# EAGLE library part BOOSTERPACK (library trainlib)
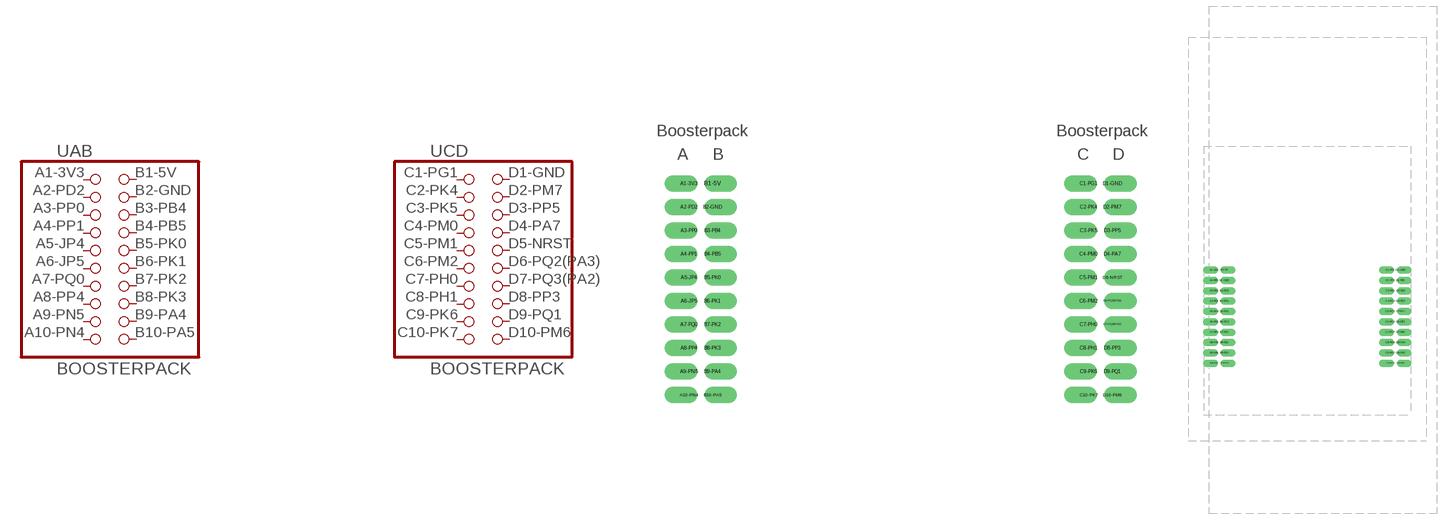
[diagram p5: symbol with the pads of BOOSTERPACK-CONN2; footprints BOOSTERPACK-CONN2, BOOSTERPACK-TIVA]

Designator prefix -; gates AB=PINH2X10 CD=PINH2X10

## BOOSTERPACKCONNECTED-2  [BOOSTERPACK-CONN2]
A1-3V3  AB:1  pas
A2-PD2  AB:3  pas
A3-PP0  AB:5  pas
A4-PP1  AB:7  pas
A5-JP4  AB:9  pas
A6-JP5  AB:11  pas
A7-PQ0  AB:13  pas
A8-PP4  AB:15  pas
A9-PN5  AB:17  pas
A10-PN4  AB:19  pas
B1-5V  AB:2  pas
B2-GND  AB:4  pas
B3-PB4  AB:6  pas
B4-PB5  AB:8  pas
B5-PK0  AB:10  pas
B6-PK1  AB:12  pas
B7-PK2  AB:14  pas
B8-PK3  AB:16  pas
B9-PA4  AB:18  pas
B10-PA5  AB:20  pas
C1-PG1  CD:1  pas
C2-PK4  CD:3  pas
C3-PK5  CD:5  pas
C4-PM0  CD:7  pas
C5-PM1  CD:9  pas
C6-PM2  CD:11  pas
C7-PH0  CD:13  pas
C8-PH1  CD:15  pas
C9-PK6  CD:17  pas
C10-PK7  CD:19  pas
D1-GND  CD:2  pas
D2-PM7  CD:4  pas
D3-PP5  CD:6  pas
D4-PA7  CD:8  pas
D5-NRST  CD:10  pas
D6-PQ2(PA3)  CD:12  pas
D7-PQ3(PA2)  CD:14  pas
D8-PP3  CD:16  pas
D9-PQ1  CD:18  pas
D10-PM6  CD:20  pas

## BOOSTERPACKTIVA  [BOOSTERPACK-TIVA]
A1-3V3  AB:1  pas
A2-PB5  AB:3  pas
A3-PB0  AB:5  pas
A4-PB1  AB:7  pas
A5-PE4  AB:9  pas
A6-PE5  AB:11  pas
A7-PB4  AB:13  pas
A8-PA5  AB:15  pas
A9-PA6  AB:17  pas
A10-PA7  AB:19  pas
B1-5V  AB:2  pas
B2-GND  AB:4  pas
B3-PD0  AB:6  pas
B4-PD1  AB:8  pas
B5-PD2  AB:10  pas
B6-PD3  AB:12  pas
B7-PE1  AB:14  pas
B8-PE2  AB:16  pas
B9-PE3  AB:18  pas
B10-PF1  AB:20  pas
C1-PF2  CD:1  pas
C2-PF3  CD:3  pas
C3-PB3  CD:5  pas
C4-PC4  CD:7  pas
C5-PC5  CD:9  pas
C6-PC6  CD:11  pas
C7-PC7  CD:13  pas
C8-PD6  CD:15  pas
C9-PD7  CD:17  pas
C10-PF4  CD:19  pas
D1-GND  CD:2  pas
D2-PB2  CD:4  pas
D3-PE0  CD:6  pas
D4-PF0  CD:8  pas
D5-NRST  CD:10  pas
D6-PB7  CD:12  pas
D7-PB6  CD:14  pas
D8-PA4  CD:16  pas
D9-PA3  CD:18  pas
D10-PA2  CD:20  pas

## Footprint BOOSTERPACK-CONN2 (pad centres in mm)
drill 1.016 pad 1.778 offset: A1-3V3 -22.86,11.43; A2-PD2 -22.86,8.89; A3-PP0 -22.86,6.35; A4-PP1 -22.86,3.81; A5-JP4 -22.86,1.27; A6-JP5 -22.86,-1.27; A7-PQ0 -22.86,-3.81; A8-PP4 -22.86,-6.35; A9-PN5 -22.86,-8.89; A10-PN4 -22.86,-11.43; B1-5V -20.32,11.43; B2-GND -20.32,8.89; B3-PB4 -20.32,6.35; B4-PB5 -20.32,3.81; B5-PK0 -20.32,1.27; B6-PK1 -20.32,-1.27; B7-PK2 -20.32,-3.81; B8-PK3 -20.32,-6.35; B9-PA4 -20.32,-8.89; B10-PA5 -20.32,-11.43; C1-PG1 20.32,11.43; C2-PK4 20.32,8.89; C3-PK5 20.32,6.35; C4-PM0 20.32,3.81; C5-PM1 20.32,1.27; C6-PM2 20.32,-1.27; C7-PH0 20.32,-3.81; C8-PH1 20.32,-6.35; C9-PK6 20.32,-8.89; C10-PK7 20.32,-11.43; D1-GND 22.86,11.43; D2-PM7 22.86,8.89; D3-PP5 22.86,6.35; D4-PA7 22.86,3.81; D5-NRST 22.86,1.27; D6-PQ2(PA3) 22.86,-1.27; D7-PQ3(PA2) 22.86,-3.81; D8-PP3 22.86,-6.35; D9-PQ1 22.86,-8.89; D10-PM6 22.86,-11.43

## Footprint BOOSTERPACK-TIVA (pad centres in mm)
drill 1.016 pad 1.778 offset: A1-3V3 -22.86,11.43; A2-PB5 -22.86,8.89; A3-PB0 -22.86,6.35; A4-PB1 -22.86,3.81; A5-PE4 -22.86,1.27; A6-PE5 -22.86,-1.27; A7-PB4 -22.86,-3.81; A8-PA5 -22.86,-6.35; A9-PA6 -22.86,-8.89; A10-PA7 -22.86,-11.43; B1-5V -20.32,11.43; B2-GND -20.32,8.89; B3-PD0 -20.32,6.35; B4-PD1 -20.32,3.81; B5-PD2 -20.32,1.27; B6-PD3 -20.32,-1.27; B7-PE1 -20.32,-3.81; B8-PE2 -20.32,-6.35; B9-PE3 -20.32,-8.89; B10-PF1 -20.32,-11.43; C1-PF2 20.32,11.43; C2-PF3 20.32,8.89; C3-PB3 20.32,6.35; C4-PC4 20.32,3.81; C5-PC5 20.32,1.27; C6-PC6 20.32,-1.27; C7-PC7 20.32,-3.81; C8-PD6 20.32,-6.35; C9-PD7 20.32,-8.89; C10-PF4 20.32,-11.43; D1-GND 22.86,11.43; D2-PB2 22.86,8.89; D3-PE0 22.86,6.35; D4-PF0 22.86,3.81; D5-NRST 22.86,1.27; D6-PB7 22.86,-1.27; D7-PB6 22.86,-3.81; D8-PA4 22.86,-6.35; D9-PA3 22.86,-8.89; D10-PA2 22.86,-11.43